# Altium footprint library GP1247AI1.PcbLib: 15 footprints
Each footprint in its own frame and in the unit in brackets; x right, y up, seen from the top. Pads: shape width x height; smd on the part's side, far side on the other; paste and mask are expansions set on the pad; w line width, h text height; cw(c..) or ccw(c..) is an arc to the next point about the centre after c.
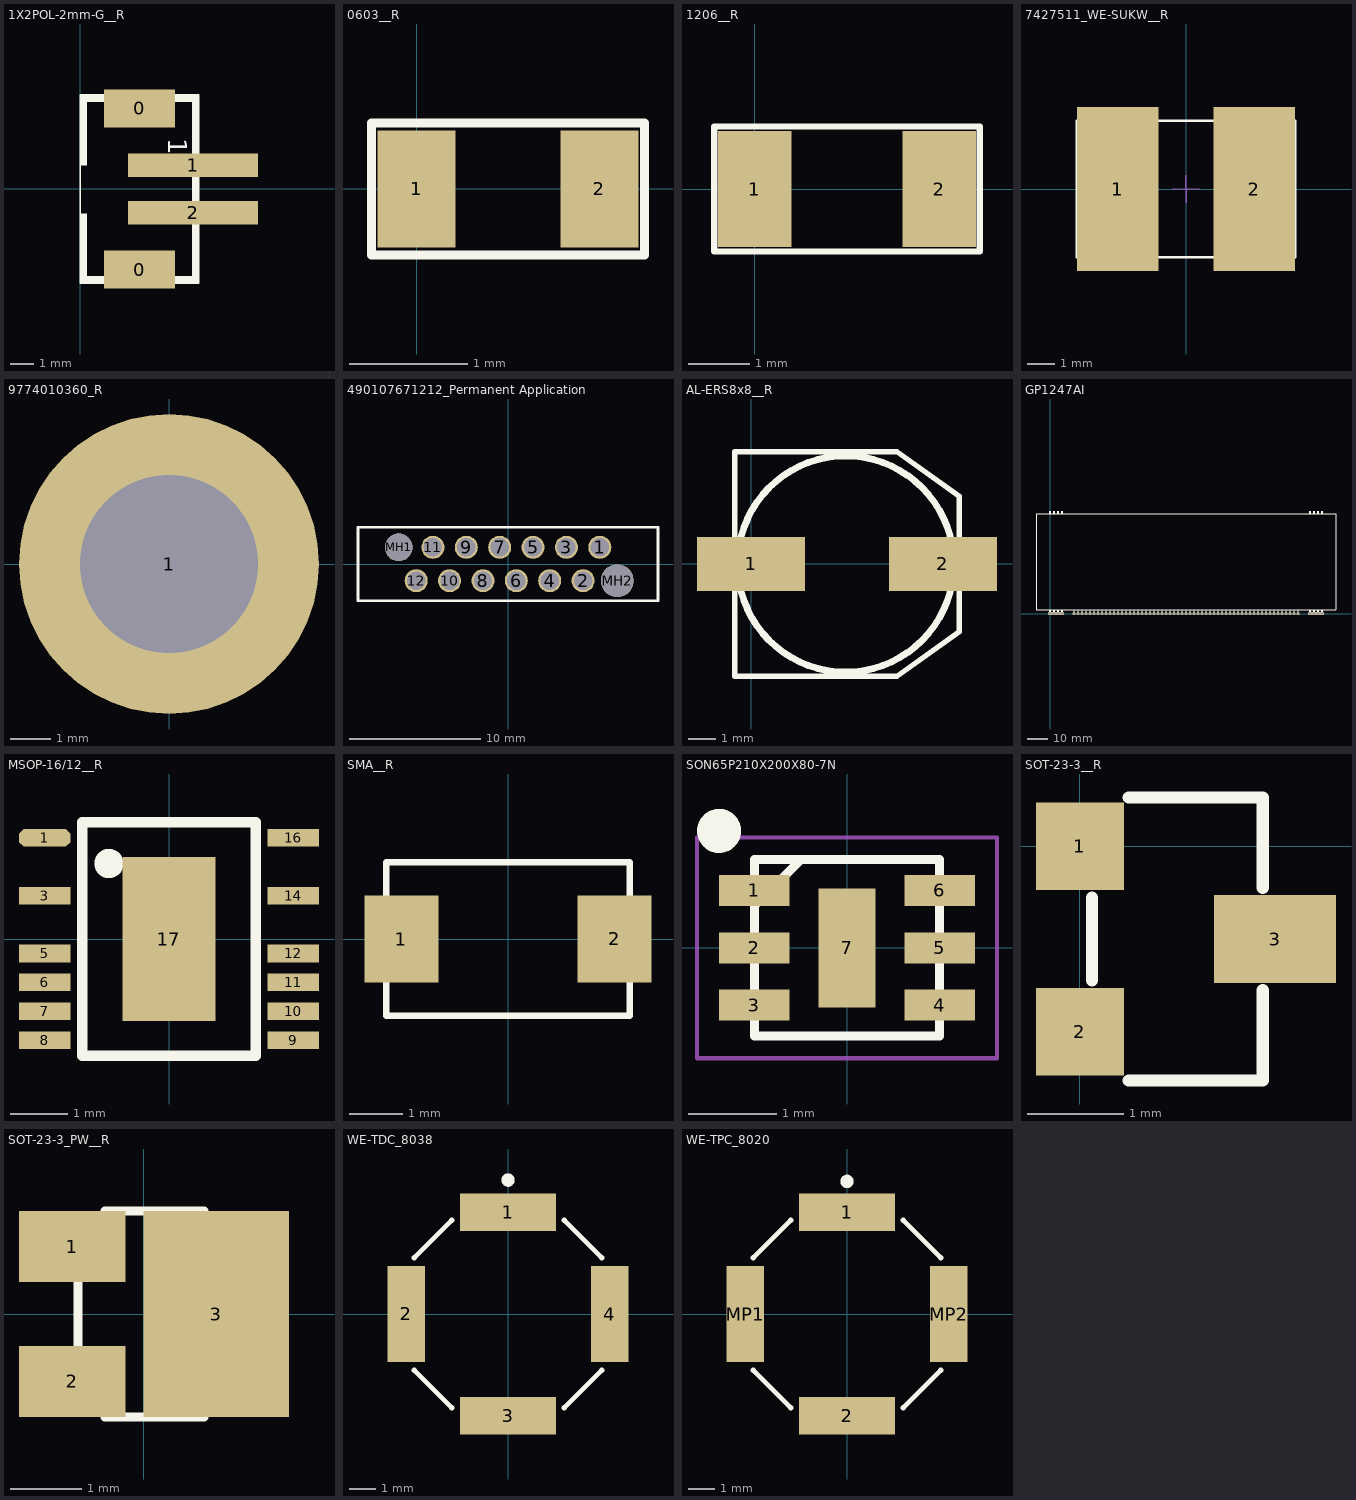
[diagram p0: the footprints below, top view; thin cyan lines are the x and y axes]

## 1X2POL-2mm-G__R [mm] "JST: B2B-PH-SM4-TB(LF)(SN)"
height 8.6
pads (4):
  rect 3x1.6 smd: 0(2.5,-3.4) 0(2.5,3.4)
  rect 5.5x1 smd: 1(4.75,1) 2(4.75,-1)
Top Overlay:
  region: 5,3.975 4.7,3.975 4.7,-3.975 5,-3.975
  region: 5,-3.975 5,-3.675 0,-3.675 0,-3.975
  region: 5,3.675 5,3.975 0,3.975 0,3.675
  rectangle: -0.025,1 0.275,3.975
  rectangle: -0.025,-4 0.275,-1.025
  lines w0.06: 0,-3.975 5,-3.975 5,3.975 0,3.975 0,-3.975
  text "1" at 3.7,2.15 h0.8
3D body "B2B-PH-SM4-TB(LF)(SN).STEP": height 6.6, standoff 0, extent -0.025,-3.975 6.975,3.975

## 0603__R [mil]
height 17.72
pads (2):
  rect 26x39 smd: 1(0,0) 2(61,0)
Top Overlay:
  lines w3: -15,-22 -15,22 76,22 76,-22 -15,-22
3D body "CAP0603.stp": height 11.81, standoff 0, extent -1,-15.5 61.99,15.99
3D body: height 1, standoff 0, extent -15,-22 76,22

## 1206__R [mil]
height 21.65
pads (2):
  rect 47x74 smd: 1(0,0) 2(118,0)
Top Overlay:
  lines w4: -26,-40 -26,40 144,40 144,-40 -26,-40
3D body "1206_SMD.STEP": height 39.45, standoff 0, extent -3.99,-31.49 122,31.5
3D body: height 1, standoff 0, extent -26,-40 144,40

## 7427511_WE-SUKW__R [mm] "SMD EMI Suppression Ferrite Bead, body 5.5x5mm"
height 4.6
pads (2):
  rect 3x6 smd: 1(-2.5,0) 2(2.5,0)
Top Overlay:
  lines w0.1: -4,-2.5 -4,2.5 4,2.5 4,-2.5 -4,-2.5
Mechanical 15:
  lines w0.05: -0.5,0 0.5,0 ; 0,-0.5 0,0.5
3D body "7427511.stp": height 4.85, standoff 0, extent -4,-2.5 4,2.5
3D body: height 0.03, standoff 0.03, extent -4,-3 4,3

## 9774010360_R [mm] "M3 Thread Internal, Length 1mm"
height 1
pads (1):
  round 7.4 / inner round 0 / far side round 0 hole 4.4 unplated: 1(0,0)
Top Paste:
  region: -3.641,0.25 -2.236,0.25 -2.207,0.437 -2.102,0.801 -1.938,1.143 -1.719,1.452 -1.451,1.719 -1.142,1.938 -0.801,2.103 -0.437,2.207 -0.25,2.236 -0.25,3.641 -0.468,3.626 -0.897,3.545 -1.313,3.413 -1.71,3.232 -2.083,3.005 -2.427,2.735 -2.735,2.427 -3.005,2.083 -3.232,1.71 -3.413,1.313 -3.545,0.897 -3.626,0.468
  region: -0.25,-3.641 -0.25,-2.236 -0.437,-2.207 -0.801,-2.102 -1.143,-1.938 -1.452,-1.719 -1.719,-1.451 -1.938,-1.142 -2.103,-0.801 -2.207,-0.437 -2.236,-0.25 -3.641,-0.25 -3.626,-0.468 -3.545,-0.897 -3.413,-1.313 -3.232,-1.71 -3.005,-2.083 -2.735,-2.427 -2.427,-2.735 -2.083,-3.005 -1.71,-3.232 -1.313,-3.413 -0.897,-3.545 -0.468,-3.626
  region: 3.641,-0.25 2.236,-0.25 2.207,-0.437 2.102,-0.801 1.938,-1.143 1.719,-1.452 1.451,-1.719 1.142,-1.938 0.801,-2.103 0.437,-2.207 0.25,-2.236 0.25,-3.641 0.468,-3.626 0.897,-3.545 1.313,-3.413 1.71,-3.232 2.083,-3.005 2.426,-2.735 2.735,-2.427 3.005,-2.083 3.232,-1.71 3.413,-1.313 3.545,-0.897 3.626,-0.468
  region: 0.25,3.641 0.25,2.236 0.437,2.207 0.801,2.102 1.143,1.938 1.452,1.719 1.719,1.451 1.938,1.142 2.103,0.801 2.207,0.437 2.236,0.25 3.641,0.25 3.626,0.468 3.545,0.897 3.413,1.313 3.232,1.71 3.005,2.083 2.735,2.426 2.427,2.735 2.083,3.005 1.71,3.232 1.313,3.413 0.897,3.545 0.468,3.626
Mechanical 13:
  circle w0.1: c0,0 r3
3D body "9774010360.stp": height 1.01, standoff -1.39, extent -3,-3 3,3

## 490107671212_Permanent Application [mm] "REDFIT IDC SKEDD Connector, pitch 2.54mm, 12p"
height 10.45
pads (14):
  round 1.75 hole 1.4: 1(6.985,1.27) 2(5.715,-1.27) 3(4.445,1.27) 4(3.175,-1.27) 5(1.905,1.27) 6(0.635,-1.27) 7(-0.635,1.27) 8(-1.905,-1.27) 9(-3.175,1.27) 10(-4.445,-1.27) 11(-5.715,1.27) 12(-6.985,-1.27)
  round 2.1 hole 2.1 unplated: MH1(-8.315,1.27)
  round 2.5 hole 2.5 unplated: MH2(8.315,-1.27)
Top Overlay:
  circle w0.25: c6.985,1.27 r0.125
  lines w0.2: -11.415,-2.8 -11.415,2.8 11.415,2.8 11.415,-2.8 -11.415,-2.8
3D body "490107671212.stp": height 10.5, standoff -4.45, extent -11.415,-2.8 11.415,2.8

## AL-ERS8x8__R [mm]
height 10.2
pads (2):
  rect 4x2 smd: 1(0,0) 2(7.1,0)
Top Overlay:
  circle w0.254: c3.5,0 r4
  lines w0.203: -0.6,-4.15 5.4,-4.15 7.7,-2.5 7.7,2.5 5.4,4.15 -0.6,4.15 -0.6,-4.15
  lines w0.254: 5.75,0.03 7.274,0.03 ; 6.512,-0.732 6.512,0.792
3D body: height 10.2, standoff 1, extent -0.499,-3.999 7.499,3.999
3D body: height 1, standoff 0, extent -0.607,-4.155 7.707,4.144
3D body: height 0.03, standoff 0, extent -2,-4.155 9.094,4.144

## GP1247AI [mm]
height 17.26
pads (65):
  oval 2.25x1.5 hole 0.75 slot 1.5 at 0 deg mask+0.05: 1(0,0) 4(6,0) 62(130,0) 65(136,0)
  rect 3.5x1.5 hole 0.75 slot 1.5 at 0 deg mask+0.05: 2(2,0) 3(4,0) 63(132,0) 64(134,0)
  oval 1.75x1.5 hole 0.75 slot 1 at 0 deg mask+0.05: 5(12,0) 6(14,0) 7(16,0) 8(18,0) 9(20,0) 10(22,0) 11(24,0) 12(26,0) 13(28,0) 14(30,0) 15(32,0) 16(34,0) 17(36,0) 18(38,0) 19(40,0) 20(42,0) 21(44,0) 22(46,0) 23(48,0) 24(50,0) 25(52,0) 26(54,0) 27(56,0) 28(58,0) 29(60,0) 30(62,0) 31(64,0) 32(66,0) 33(68,0) 34(70,0) 35(72,0) 36(74,0) 37(76,0) 38(78,0) 39(80,0) 40(82,0) 41(84,0) 42(86,0) 43(88,0) 44(90,0) 45(92,0) 46(94,0) 47(96,0) 48(98,0) 49(100,0) 50(102,0) 51(104,0) 52(106,0) 53(108,0) 54(110,0) 55(112,0) 56(114,0) 57(116,0) 58(118,0) 59(120,0) 60(122,0) 61(124,0)
Top Overlay:
  rectangle: 135.45,49.949 136.55,51.449
  rectangle: 133.45,49.949 134.55,51.449
  rectangle: 131.45,49.949 132.55,51.449
  rectangle: 129.45,49.949 130.55,51.449
  rectangle: 5.45,49.95 6.55,51.45
  rectangle: 3.45,49.95 4.55,51.45
  rectangle: 1.45,49.95 2.55,51.45
  rectangle: -0.55,49.95 0.55,51.45
  rectangle: 135.45,0 136.55,2
  rectangle: 133.45,0 134.55,2
  rectangle: 131.45,0 132.55,2
  rectangle: 129.45,0 130.55,2
  rectangle: 123.699,0 124.299,2
  rectangle: 121.7,0 122.3,2
  rectangle: 119.7,0 120.3,2
  rectangle: 117.7,0 118.3,2
  rectangle: 115.7,0 116.3,2
  rectangle: 113.699,0 114.299,2
  rectangle: 111.699,0 112.299,2
  rectangle: 109.699,0 110.299,2
  rectangle: 107.7,0 108.3,2
  rectangle: 105.7,0 106.3,2
  rectangle: 103.7,0 104.3,2
  rectangle: 101.7,0 102.3,2
  rectangle: 99.7,0 100.3,2
  rectangle: 97.7,0 98.3,2
  rectangle: 95.699,0 96.299,2
  rectangle: 93.7,0 94.3,2
  rectangle: 91.7,0 92.3,2
  rectangle: 89.7,0 90.3,2
  rectangle: 87.7,0 88.3,2
  rectangle: 85.7,0 86.3,2
  rectangle: 83.7,0 84.3,2
  rectangle: 81.7,0 82.3,2
  rectangle: 79.699,0 80.299,2
  rectangle: 77.7,0 78.3,2
  rectangle: 75.7,0 76.3,2
  rectangle: 73.7,0 74.3,2
  rectangle: 71.7,0 72.3,2
  rectangle: 69.699,0 70.299,2
  rectangle: 67.7,0 68.3,2
  rectangle: 65.699,0 66.299,2
  rectangle: 63.7,0 64.3,2
  rectangle: 61.699,0 62.299,2
  rectangle: 59.699,0 60.299,2
  rectangle: 57.7,0 58.3,2
  rectangle: 55.7,0 56.3,2
  rectangle: 53.699,0 54.299,2
  rectangle: 51.7,0 52.3,2
  rectangle: 49.7,0 50.3,2
  rectangle: 47.7,0 48.3,2
  rectangle: 45.7,0 46.3,2
  rectangle: 43.7,0 44.3,2
  rectangle: 41.7,0 42.3,2
  rectangle: 39.7,0 40.3,2
  rectangle: 37.7,0 38.3,2
  rectangle: 35.7,0 36.3,2
  rectangle: 33.7,0 34.3,2
  rectangle: 31.699,0 32.299,2
  rectangle: 29.7,0 30.3,2
  rectangle: 27.7,0 28.3,2
  rectangle: 25.7,0 26.3,2
  rectangle: 23.7,0 24.299,2
  rectangle: 21.7,0 22.3,2
  rectangle: 19.7,0 20.3,2
  rectangle: 17.7,0 18.3,2
  rectangle: 15.7,0 16.3,2
  rectangle: 13.699,0 14.299,2
  rectangle: 11.699,0 12.299,2
  rectangle: 5.45,0 6.55,2
  rectangle: 3.45,0 4.55,2
  rectangle: 1.45,0 2.55,2
  rectangle: -0.55,0 0.55,2
  lines w0.25: -7,2 143,2 143,50 -7,50 -7,2
3D body: height 10, standoff 2, extent -7,2 143,50

## MSOP-16/12__R [mm]
height 1.1
pads (13):
  oct 0.889x0.305 smd mask+0.08: 1(-2.15,1.75)
  rect 0.889x0.305 smd mask+0.08: 3(-2.15,0.75) 5(-2.15,-0.25) 6(-2.15,-0.75) 7(-2.15,-1.25) 8(-2.15,-1.75) 9(2.15,-1.75) 10(2.15,-1.25) 11(2.15,-0.75) 12(2.15,-0.25) 14(2.15,0.75) 16(2.15,1.75)
  rect 1.615x2.845 smd: 17(0,0)
Top Overlay:
  circle w0.254: c-1.039,1.305 r0.126
  lines w0.178: -1.5,-2.02 1.5,-2.02 1.5,2.02 -1.5,2.02 -1.5,-2.02
3D body: height 0, standoff 0, extent -1.5,-1.492 1.499,1.508
3D body: height 1.1, standoff 0, extent -1.5,-2.02 1.5,2.02
3D body "User Library-MSOP-16.STEP": height 0.96, standoff 0.1, extent -2.45,-2.02 2.45,2.019

## SMA__R [mm]
height 2.45
pads (2):
  rect 1.4x1.64 smd: 1(-2.015,0) 2(2.015,0)
Top Overlay:
  lines w0.127: -2.3,-1.45 2.3,-1.45 2.3,1.45 -2.3,1.45 -2.3,-1.45
  text "K" at 1.634,-0.353 h0.7
3D body: height 0.03, standoff 0, extent -2.715,-1.463 2.71,1.455
3D body: height 2.45, standoff 0, extent -2.715,-1.453 2.708,1.455

## SON65P210X200X80-7N [mm]
pads (7):
  rect 0.8x0.35 smd: 1(-1.05,0.65) 2(-1.05,0) 3(-1.05,-0.65) 4(1.05,-0.65) 5(1.05,0) 6(1.05,0.65)
  rect 0.65x1.35 smd: 7(0,0)
Top Overlay:
  circle w0.25: c-1.45,1.325 r0.125
  lines w0.1: -1.05,0.475 -0.525,1 ; -1.05,-1 1.05,-1 1.05,1 -1.05,1 -1.05,-1
Mechanical 20:
  lines w0.05: -1.7,-1.25 1.7,-1.25 1.7,1.25 -1.7,1.25 -1.7,-1.25
3D body "ISL76671AROZ-T7.stp": height 0.8, standoff 0, extent -1.1,-1 1.1,1

## SOT-23-3__R [mil]
height 43.31
pads (3):
  rect 36x36 smd: 1(0,0) 2(0,-76)
  rect 50x36 smd: 3(80,-38)
Top Overlay:
  lines w5: 5,-55 5,-21 ; 20,-96 75,-96 ; 20,20 75,20 75,-17 ; 75,-95 75,-59
3D body "sot23-3.STEP": height 40.16, standoff 0, extent -9.44,-95.48 88.04,19.48

## SOT-23-3_PW__R [mm]
height 1.1
pads (3):
  rect 1.5x1 smd: 1(-1.011,0.95) 2(-1.011,-0.95)
  rect 2.05x2.9 smd: 3(1.021,0)
Top Overlay:
  lines w0.127: -0.929,-0.436 -0.929,0.427 ; -0.548,-1.45 0.849,-1.45 ; -0.548,1.45 0.849,1.45 0.849,0.529 ; 0.849,-1.452 0.849,-0.538
3D body "sot23-3.STEP": height 1.02, standoff 0, extent -1.25,-1.46 1.226,1.46

## WE-TDC_8038 [mm] "SMT Shielded Coupled Inductor, 4-Leads, body 8x8mm"
height 3.8
pads (4):
  rect 3.6x1.4 smd: 1(0,3.8) 3(0,-3.8)
  rect 1.4x3.6 smd: 2(-3.8,0) 4(3.8,0)
Top Overlay:
  circle w0.25: c0,5 r0.125
  lines w0.2: -3.5,-2.1 -2.1,-3.5 ; -3.5,2.1 -2.1,3.5 ; 2.1,-3.5 3.5,-2.1 ; 2.1,3.5 3.5,2.1
3D body "7448944xxx.stp": height 3.8, standoff 0, extent -4,-4 4,4

## WE-TPC_8020 [mm] "Power Inductor, SMD, 4-Leads, body 8.0x8.0mm"
height 1.8
pads (4):
  rect 3.6x1.4 smd: 1(0,3.8) 2(0,-3.8)
  rect 1.4x3.6 smd: MP1(-3.8,0) MP2(3.8,0)
Top Overlay:
  circle w0.25: c0,4.95 r0.125
  lines w0.2: -3.5,-2.1 -2.1,-3.5 ; -3.5,2.1 -2.1,3.5 ; 2.1,-3.5 3.5,-2.1 ; 2.1,3.5 3.5,2.1
3D body "744070xxx.stp": height 1.8, standoff 0, extent -4,-4 4,4